# Altium schematic symbol library BUFFER-SOT23-5.SchLib: 1 symbol
Pins are listed as number, name and electrical type; pins without a type are passive.

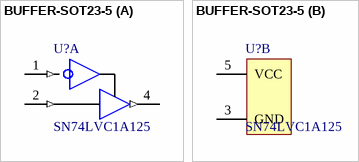
[diagram p0: symbol BUFFER-SOT23-5]

## BUFFER-SOT23-5
designator U?, comment SN74LVC1A125
part A pins: 1 ~{OE} (in), 2 A (in), 4 Y (out)
part B pins: 3 GND (power), 5 VCC (power)